# Altium schematic symbol library NTC.SchLib: 1 symbol
Pins are listed as number, name and electrical type; pins without a type are passive.

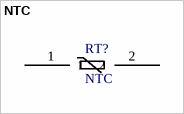
[diagram p0: symbol NTC]

## NTC
designator RT?
NTC thermistor symbol
pins: 1, 2